# Altium footprint library SnapEDApcb.PcbLib: 1 footprints
Each footprint in its own frame and in the unit in brackets; x right, y up, seen from the top. Pads: shape width x height; smd on the part's side, far side on the other; paste and mask are expansions set on the pad; w line width, h text height; cw(c..) or ccw(c..) is an arc to the next point about the centre after c.
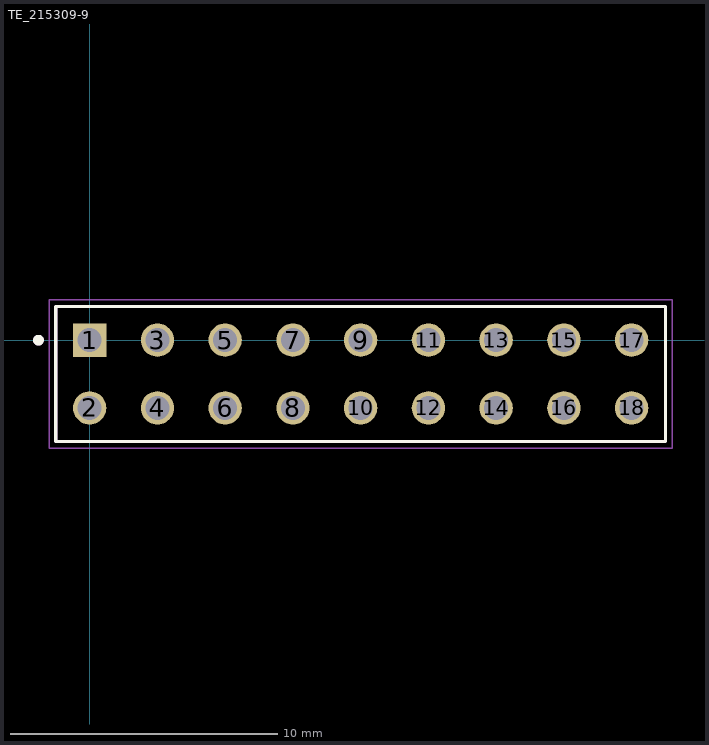
[diagram p0: the footprint, top view; thin cyan lines are the x and y axes]

## TE_215309-9 [mm]
pads (18):
  rect 1.25x1.25 hole 0.9: 1(0,0)
  round 1.25 hole 0.9: 2(0,-2.54) 3(2.54,0) 4(2.54,-2.54) 5(5.08,0) 6(5.08,-2.54) 7(7.62,0) 8(7.62,-2.54) 9(10.16,0) 10(10.16,-2.54) 11(12.7,0) 12(12.7,-2.54) 13(15.24,0) 14(15.24,-2.54) 15(17.78,0) 16(17.78,-2.54) 17(20.32,0) 18(20.32,-2.54)
Top Overlay:
  circle w0.2: c-1.92,0 r0.1
  lines w0.127: -1.27,-3.8 -1.27,1.26 21.59,1.26 21.59,-3.8 -1.27,-3.8
Mechanical 13:
  circle w0.2: c-1.92,0 r0.1
  lines w0.127: -1.27,-3.8 -1.27,1.26 21.59,1.26 21.59,-3.8 ; -1.27,-3.8 21.59,-3.8 ; -1.27,-3.8 21.59,-3.8
Mechanical 15:
  lines w0.05: -1.52,-4.05 -1.52,1.51 21.84,1.51 21.84,-4.05 -1.52,-4.05